# Altium schematic symbol library ESP32_XPID.SchLib: 1 symbol
Pins are listed as number, name and electrical type; pins without a type are passive.

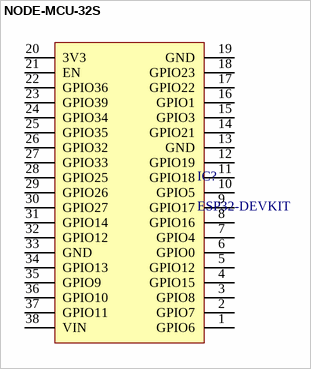
[diagram p0: symbol NODE-MCU-32S]

## NODE-MCU-32S
designator IC?, comment ESP32-DEVKIT
NODE-MCU ESP32 development kit
footprint NODEMCU-32S
pins: 1 GPIO6, 2 GPIO7, 3 GPIO8, 4 GPIO15, 5 GPIO12, 6 GPIO0, 7 GPIO4, 8 GPIO16, 9 GPIO17, 10 GPIO5, 11 GPIO18, 12 GPIO19, 13 GND, 14 GPIO21, 15 GPIO3, 16 GPIO1, 17 GPIO22, 18 GPIO23, 19 GND, 20 3V3, 21 EN, 22 GPIO36, 23 GPIO39, 24 GPIO34, 25 GPIO35, 26 GPIO32, 27 GPIO33, 28 GPIO25, 29 GPIO26, 30 GPIO27, 31 GPIO14, 32 GPIO12, 33 GND, 34 GPIO13, 35 GPIO9, 36 GPIO10, 37 GPIO11, 38 VIN